# Altium integrated library 1042.IntLib: 1 symbol
Pins are listed as number, name and electrical type; pins without a type are passive.

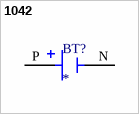
[diagram p0: symbol 1042]

## 1042
designator BT?
SMT Holder for 18650 Battery; MF: Keystone Electronics Corp.; MP: 1042; SnapEDA_Link: https://www.snapeda.com/parts/1042/Keystone/view-part/?ref=snap; Package: NON STANDARD-5 Keystone; Value: *; Check_prices: https://www.snapeda.com/parts/1042/Keystone/view-part/?ref=eda
footprint BAT_1042
pins: N NEG, P POS